# Altium footprint library Capacitors_imp.PCBLIB: 52 footprints (part 4 of 4)
Each footprint in its own frame and in the unit in brackets; x right, y up, seen from the top. Pads: shape width x height; smd on the part's side, far side on the other; paste and mask are expansions set on the pad; w line width, h text height; cw(c..) or ccw(c..) is an arc to the next point about the centre after c.
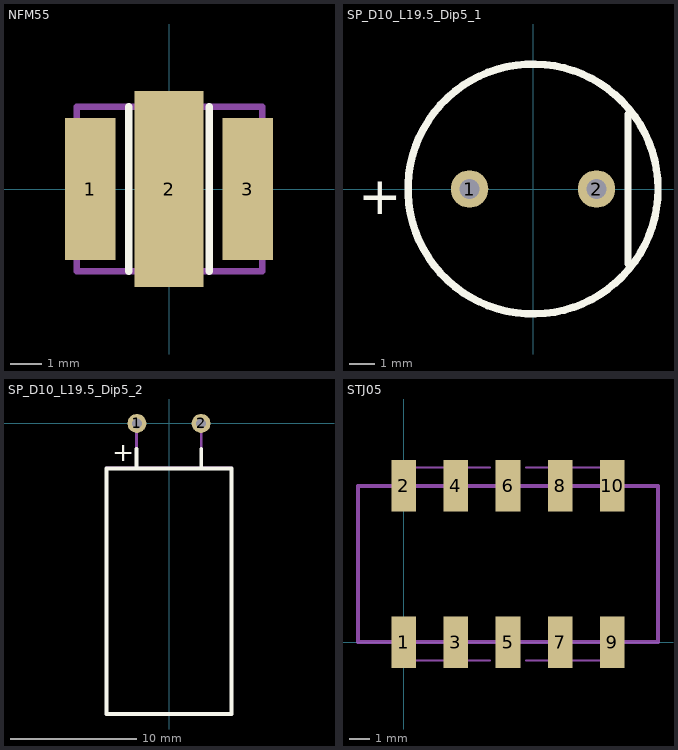
[diagram p3: the footprints below, top view; thin cyan lines are the x and y axes]

## NFM55 [mm]
height 2.6
pads (3):
  rect 1.6x4.5 smd: 1(-2.5,0) 3(2.5,0)
  rect 2.2x6.2 smd: 2(0,0)
Top Overlay:
  lines w0.25: -1.275,-2.6 -1.275,2.6 ; 1.275,-2.6 1.275,2.6
Mechanical 1:
  circle w0.1: c-2.3,0 r0.1
  lines w0.2: -2.925,-2.6 -2.925,2.6 2.95,2.6 2.95,-2.6 -2.925,-2.6
  text ".Designator" at -1.14,-0.44 h1.5
3D body: height 2.5, standoff 0, extent -2.95,-2.6 2.95,2.6

## SP_D10_L19.5_Dip5_1 [mm] "YAGEO"
height 19.5
pads (2):
  round 1.5 hole 0.8: 1(-2.54,0) 2(2.54,0)
Top Overlay:
  circle w0.3: c0,0 r5
  lines w0.3: 3.8,-3 3.8,3
  text "+" at -7,-1 h1.52
Mechanical 1:
  circle w0.2: c0,0 r5
  text "+" at -4,-1 h1.52
  text ".Designator" at -1.85,-0.3 h1.5
3D body: height 19.5, standoff -4, extent -5,-5 5,5

## SP_D10_L19.5_Dip5_2 [mm] "YAGEO"
height 10
pads (2):
  round 1.5 hole 0.8: 1(-2.54,0) 2(2.54,0)
Top Overlay:
  lines w0.3: -2.573,-3.5 -2.573,-2 ; 2.554,-3.5 2.554,-2 ; -4.953,-23 -4.953,-3.556 4.953,-3.556 4.953,-23 -4.953,-23
  text "+" at -4.5,-3 h1.52
Mechanical 1:
  lines w0.2: -2.573,-3.5 -2.573,0 ; 2.554,-3.5 2.554,0 ; -4.953,-23 -4.953,-3.5 4.953,-3.5 4.953,-23 -4.953,-23
  text "+" at -4.5,-2.5 h1.52
  text ".Designator" at -3,-10 h1.5
3D body: height 10, standoff -3, extent -5,-23.046 5,0.254

## STJ05 [mm]
height 7.62
pads (10):
  rect 1.2x2.5 smd: 1(0,0) 2(0,7.62) 3(2.54,0) 4(2.54,7.62) 5(5.08,0) 6(5.08,7.62) 7(7.62,0) 8(7.62,7.62) 9(10.16,0) 10(10.16,7.62)
Mechanical 1:
  lines w0.1: 0,-0.889 4.191,-0.889 ; 0,8.509 4.191,8.509 ; 4.953,-0.889 5.207,-0.889 ; 4.953,8.509 5.207,8.509 ; 5.969,-0.889 10.16,-0.889 ; 5.969,8.509 10.16,8.509
  lines w0.2: 0,-0.889 0,0 ; 0,7.62 0,8.509 ; 10.16,-0.889 10.16,0 ; 10.16,7.62 10.16,8.509 ; -2.22,0.01 12.38,0.01 12.38,7.61 -2.22,7.61 -2.22,0.01
  text "1" at -0.127,1.143 h1.5
  text "2" at -0.254,6.223 h1.5
  text ".Comment" at 2.04,2.72 h1.5
  text ".Designator" at 3.63,4.42 h1.5
3D body: height 7.37, standoff 0.01, extent -2.22,-0.89 12.38,8.51